# Altium schematic symbol library TactileSwitch.SchLib: 3 symbols
Pins are listed as number, name and electrical type; pins without a type are passive.

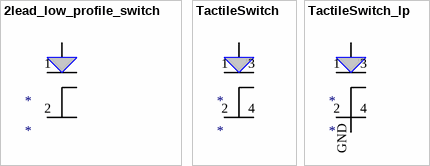
[diagram p0: symbols 2lead_low_profile_switch to TactileSwitch_lp]

## 2lead_low_profile_switch
designator *
footprint 2lead_low_profile_switch (CFP, 2-Leads, Body 3.60x6.00mm (max), Pitch 0.00mm, IPC Medium Density)
pins: 1 GND, 2 GND

## TactileSwitch
designator *
footprint TactileSwitch (SOP, 4-Leads, Body 6.00x6.00mm, Pitch 4.50mm, IPC Medium Density)
pins: 1 GND, 2 GND, 3 GND, 4 GND

## TactileSwitch_lp
designator *
footprint LOW_PROFILE_W_GND
pins: 1 GND, 2 GND, 3 GND, 4 GND, GND